# EAGLE library part GPSDO (library B200-GPSDO)
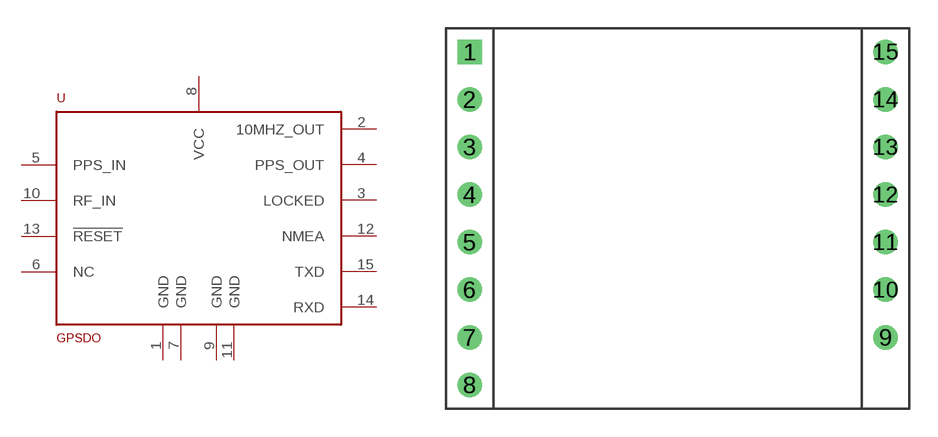
[diagram p1: symbol with the pads of GPSDO; footprint GPSDO]

Designator prefix -

## GPSDO  [GPSDO]
1  GND  pwr
2  10MHZ_OUT  in
3  LOCKED  in
4  PPS_OUT  in
5  PPS_IN  out
6  NC  nc
7  GND  pwr
8  VCC  pwr
9  GND  pwr
10  RF_IN  out
11  GND  pwr
12  NMEA  in
13  !RESET  out
14  RXD  out
15  TXD  in

## Footprint GPSDO (pad centres in mm)
drill 0.8 square: 1 -11.113,8.89
drill 0.8: 2 -11.113,6.35; 3 -11.113,3.81; 4 -11.113,1.27; 5 -11.113,-1.27; 6 -11.113,-3.81; 7 -11.113,-6.35; 8 -11.113,-8.89; 9 11.113,-6.35; 10 11.113,-3.81; 11 11.113,-1.27; 12 11.113,1.27; 13 11.113,3.81; 14 11.113,6.35; 15 11.113,8.89